# Altium footprint library Inductor.PcbLib: 39 footprints (part 3 of 3)
Each footprint in its own frame and in the unit in brackets; x right, y up, seen from the top. Pads: shape width x height; smd on the part's side, far side on the other; paste and mask are expansions set on the pad; w line width, h text height; cw(c..) or ccw(c..) is an arc to the next point about the centre after c.
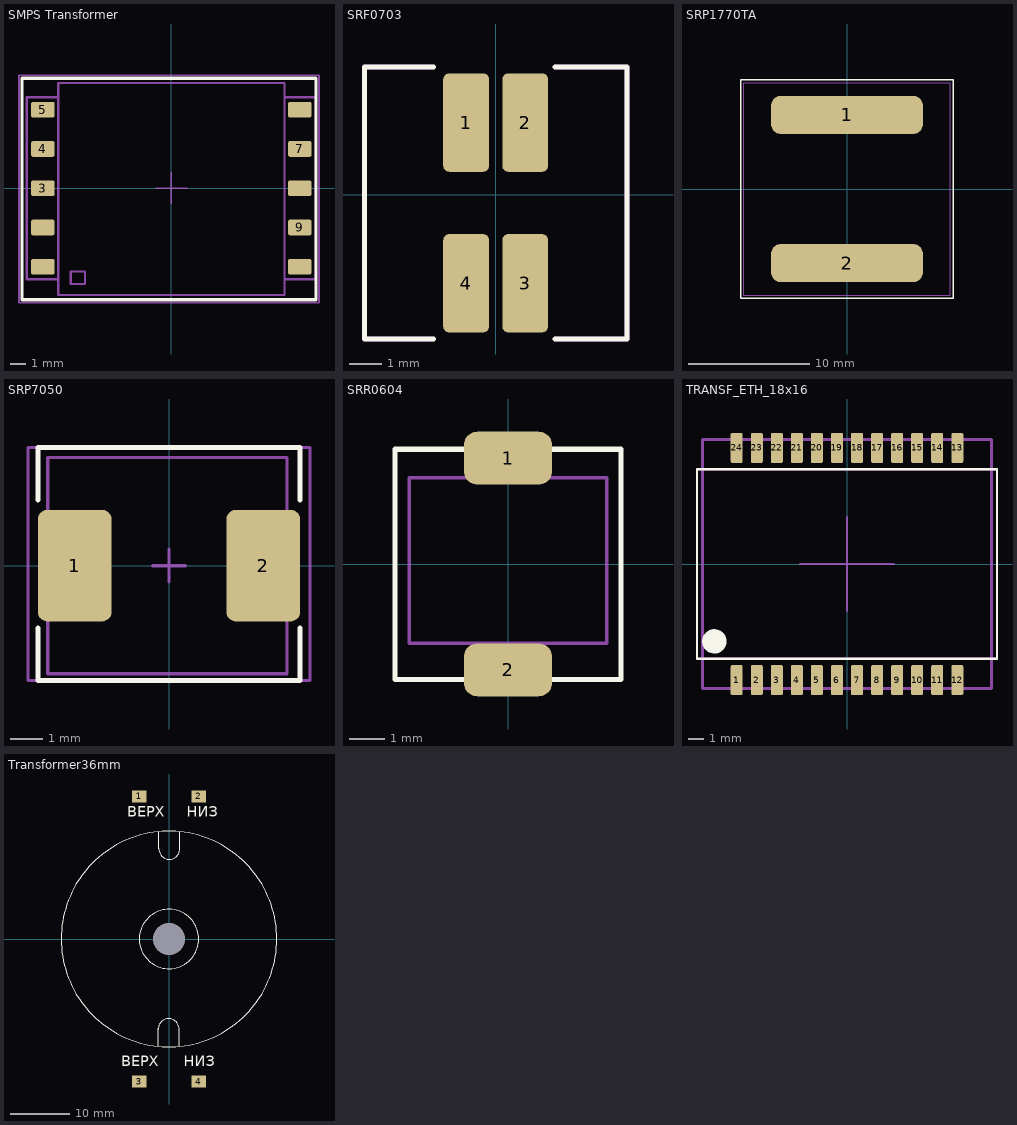
[diagram p2: the footprints below, top view; thin cyan lines are the x and y axes]

## SMPS Transformer [mm]
pads (10):
  rrect25% 1.5x1 smd: 3(-8.18,0) 4(-8.18,2.5) 5(-8.18,5) 7(8.18,2.5) 9(8.18,-2.5) ""(-8.18,-5) ""(-8.18,-2.5) ""(8.18,-5) ""(8.18,0) ""(8.18,5)
Top Overlay:
  lines w0.2: -9.5,-7.1 -9.5,7 9.2,7 9.2,-7.1 -9.5,-7.1
Mechanical 9:
  text ".Designator" at -4.8,8.3 h3.5
Mechanical 10:
  text ".Comment" at -2.9,-9.2 h2
Mechanical 11:
  lines w0.15: -7.2,-5.8 -9.2,-5.8 -9.2,5.8 -7.2,5.8 ; 7.2,-5.8 9.2,-5.8 9.2,5.8 7.2,5.8 ; -6.4,-5.3 -6.4,-6.1 -5.5,-6.1 -5.5,-5.3 -6.4,-5.3 ; -6.4,-5.3 -6.4,-5.3 ; -7.2,-6.8 -7.2,6.7 7.2,6.7 7.2,-6.8 -7.2,-6.8
Mechanical 15:
  lines w0.1: -1,0 1,0 ; 0,-1 0,1 ; -9.7,-7.3 -9.7,7.2 9.4,7.2 9.4,-7.3 -9.7,-7.3
3D body: height 1.5, standoff 0, extent -8.7,4.6 -7.2,5.4
3D body: height 1.5, standoff 0, extent -8.7,2.1 -7.2,2.9
3D body: height 1.5, standoff 0, extent -8.7,-0.4 -7.2,0.4
3D body: height 1.5, standoff 0, extent -8.7,-2.9 -7.2,-2.1
3D body: height 1.5, standoff 0, extent -8.7,-5.4 -7.2,-4.6
3D body: height 1.5, standoff 0, extent 7.2,-5.4 8.7,-4.6
3D body: height 1.5, standoff 0, extent 7.2,-2.9 8.7,-2.1
3D body: height 1.5, standoff 0, extent 7.2,-0.4 8.7,0.4
3D body: height 1.5, standoff 0, extent 7.2,2.1 8.7,2.9
3D body: height 1.5, standoff 0, extent 7.2,4.6 8.7,5.4
3D body: height 12.7, standoff 0, extent -7.2,-6.77 7.2,6.69

## SRF0703 [mm]
pads (5):
  rrect25% 1.4x3 smd: 1(-0.9,2.2) 2(0.9,2.2) 3(0.9,-2.7) 4(-0.9,-2.7)
  rrect25% 0.5x0.5 on Top Overlay: ""(4.5,4.5)
Top Overlay:
  lines w0.15: -1.9,-4.4 -4,-4.4 -4,3.9 -1.9,3.9 ; 1.8,-4.4 4,-4.4 4,3.9 1.8,3.9
Mechanical 9:
  text ".Comment" at 0,4.7 h0.8
  text ".Designator" at 0.5,-5.4 h0.8
Mechanical 11:
  lines w0.15: -1.9,-4.4 -4,-4.4 -4,3.9 -1.9,3.9 ; 1.8,-4.4 4,-4.4 4,3.9 1.8,3.9
3D body "SRF0703.STEP": height 3.4, standoff -0.05, extent -3.8,-4.075 3.8,3.525

## SRP1770TA [mm]
pads (2):
  rrect50% 12.5x3.15 smd: 1(0,6.1) 2(0,-6.1)
Top Overlay:
  lines w0.15: -8.75,-9 -8.75,9 8.75,9 8.75,-9 -8.75,-9
Mechanical 7:
  lines w0.1: -8.5,-8.75 8.5,-8.75 8.5,8.75 -8.5,8.75 -8.5,-8.75
Mechanical 9:
  text ".Designator" at -6.7,10.2 h3.5
Mechanical 10:
  text ".Comment" at -3.2,-11.2 h2
3D body "User Library-SRP1770TA.step": height 6.45, standoff -0.25, extent -8.45,-8.7 8.45,8.7

## SRP7050 [mm] "SMD Power Inductors"
pads (2):
  rrect25% 2.25x3.4 smd: 1(-2.875,0) 2(2.875,0)
Top Overlay:
  lines w0.15: -4,-1.9 -4,-3.5 4,-3.5 4,-1.9 ; -4,2 -4,3.6 4,3.6 4,2
Mechanical 7:
  lines w0.1: -3.7,-3.3 3.6,-3.3 3.6,3.3 -3.7,3.3 -3.7,-3.3
Mechanical 9:
  text ".Designator" at -5.5,4.5 h3.5
Mechanical 10:
  text ".Comment" at -1.6,-5.5 h2
Mechanical 15:
  lines w0.1: -0.5,0 0.5,0 ; 0,-0.5 0,0.5 ; -4.3,-3.5 4.3,-3.5 4.3,3.6 -4.3,3.6 -4.3,-3.5
3D body "User Library-SRP7050TA.step": height 4.93, standoff -0.02, extent -3.7,-3.3 3.6,3.3

## SRR0604 [mm] "SMD Power Inductors"
pads (2):
  rrect50% 2.5x1.5 smd: 1(0,3) 2(0,-3)
Top Overlay:
  lines w0.15: -3.2,-3.275 -3.2,3.25 3.2,3.25 3.2,-3.05 3.2,-3.275 -3.2,-3.275
Mechanical 7:
  lines w0.1: -2.8,-2.25 2.8,-2.25 2.8,2.45 -2.8,2.45 -2.8,-2.25
Mechanical 9:
  text ".Designator" at -5.4,4.5 h3.5
Mechanical 10:
  text ".Comment" at -1.6,-5.5 h2
3D body "User Library-IND-SRR0604_6x6x5.step": height 4.8, standoff 0, extent -3.25,-3.25 3.25,3.25

## TRANSF_ETH_18x16 [mm]
pads (24):
  rrect25% 0.76x1.9 smd: 1(-6.985,-7.35) 2(-5.715,-7.35) 3(-4.445,-7.35) 4(-3.175,-7.35) 5(-1.905,-7.35) 6(-0.635,-7.35) 7(0.635,-7.35) 8(1.905,-7.35) 9(3.175,-7.35) 10(4.445,-7.35) 11(5.715,-7.35) 12(6.985,-7.35) 13(6.985,7.35) 14(5.715,7.35) 15(4.445,7.35) 16(3.175,7.35) 17(1.905,7.35) 18(0.635,7.35) 19(-0.635,7.35) 20(-1.905,7.35) 21(-3.175,7.35) 22(-4.445,7.35) 23(-5.715,7.35) 24(-6.985,7.35)
Top Overlay:
  circle w0.2: c-8.4,-4.9 r0.68
  region: -8.4,-4.2 -8.5,-4.3 -8.7,-4.3 -9.1,-4.7 -9.1,-5.1 -8.7,-5.5 -8,-5.5 -7.72,-5.22 -7.72,-4.58 -7.9,-4.4 -8,-4.4
  lines w0.15: -9.5,-6 -9.5,6 9.5,6 9.5,-6 -9.5,-6
Mechanical 7:
  lines w0.2: -9.15,-7.875 9.15,-7.875 9.15,7.875 -9.15,7.875 -9.15,-7.875
Mechanical 9:
  text ".Designator" at 0.7,-1.8 h0.8
  text ".Comment" at -2.1,-2.7 h0.8
Mechanical 11:
  lines w0.15: -9.5,-6 9.5,-6 9.5,6 -9.5,6 -9.5,-6
Mechanical 15:
  lines w0.1: -3,0 3,0 ; 0,-3 0,3
3D body "45809.stp": height 6.35, standoff 0, extent -9.15,-7.875 9.15,7.875

## Transformer36mm [mm]
pads (5):
  rect 2.5x2 smd: 1(-5,24) 2(5,24) 3(-5,-24) 4(5,-24)
  round 0 hole 5.4: ""(0,0)
Top Overlay:
  circle w0.2: c0,0 r5
  circle w0.2: c0,0 r18.15
  lines w0.2: -1.8,-18 -1.8,-15 ; -1.8,-15.2 cw(c-0.05,-15.144) 1.7,-15.2 1.7,-18 ; -1.7,18 -1.7,15.2 ccw(c0.05,15.144) 1.8,15.2 ; 1.8,15 1.8,18
  text "НИЗ" at 2.5,-22 h3
  text "ВЕРХ" at -8,-22 h3
  text "ВЕРХ" at -7,20 h3
  text "НИЗ" at 3,20 h3
3D body "Чашечный трансформатор.STEP": height 25.53, standoff -5.5, extent -18.05,-17.989 18.15,17.989